# EAGLE library part EE2-XNU (library Public)
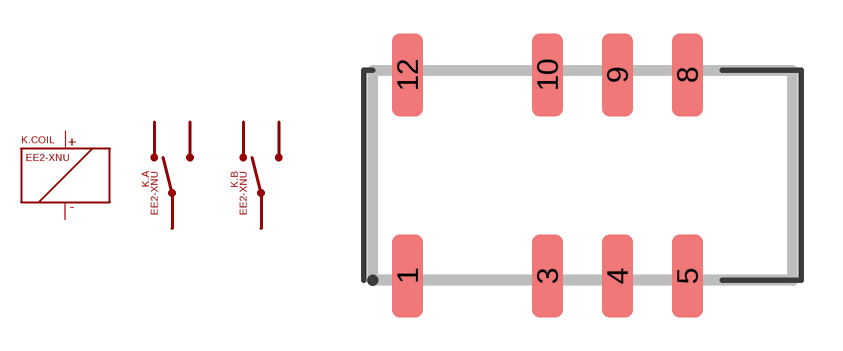
[diagram p165: symbol with the pads of EE2_KEMET_BLANK_SINGLE; footprint EE2_KEMET_BLANK_SINGLE]

Designator prefix K; gates .COIL=RELAIS_COIL .A=SWITCH_SPDT .B=SWITCH_SPDT

## EE2-XNU (I_MAX: 2A; V_MAX: 220VDC, 250VAC)  [EE2_KEMET_BLANK_SINGLE]
1  .COIL:+
3  .A:NC
4  .A:SW
5  .A:NO
8  .B:NO
9  .B:SW
10  .B:NC
12  .COIL:-

## Footprint EE2_KEMET_BLANK_SINGLE (pad centres in mm)
smd 1.11 x 3: 1 -6.35,-3.645; 3 -1.27,-3.645; 4 1.27,-3.645; 5 3.81,-3.645; 8 3.81,3.645; 9 1.27,3.645; 10 -1.27,3.645; 12 -6.35,3.645